# Altium schematic symbol library DI_SCHOTTKY.SchLib: 1 symbol
Pins are listed as number, name and electrical type; pins without a type are passive.

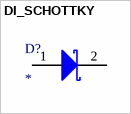
[diagram p0: symbol DI_SCHOTTKY]

## DI_SCHOTTKY
designator D?
pins: 1 A, 2 K